# EAGLE library part M50-3142045 (library esp32_shield)
Headers & Wire Housings 20 WAY SIL VERT SMT SKT Source: Datasheet <https://componentsearchengine.com/Datasheets/1/M50-3142045.pdf>
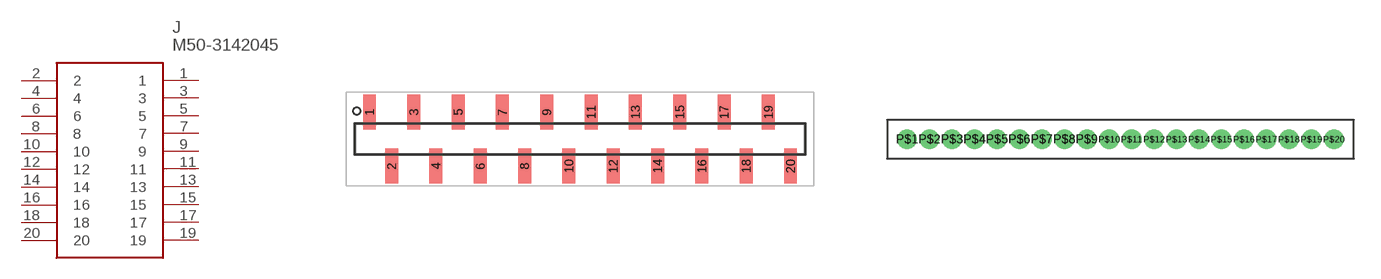
[diagram p0: symbol with the pads of M503142045; footprints M503142045, 20X1_HEADER_1MM27]

Designator prefix J

## M50-3142045 (DESCRIPTION: Headers & Wire Housings 20 WAY SIL VERT SMT SKT; HEIGHT: 3.6mm; MANUFACTURER_NAME: Harwin; MANUFACTURER_PART_NUMBER: M50-3142045; MOUSER_PART_NUMBER: 855-M50-3142045; MOUSER_PRICE-STOCK: https://www.mouser.co.uk/ProductDetail/Harwin/M50-3142045/?qs=%252BdQmOuGyFcFpETieNSWjAg%3D%3D)  [M503142045]
1  1
2  2
3  3
4  4
5  5
6  6
7  7
8  8
9  9
10  10
11  11
12  12
13  13
14  14
15  15
16  16
17  17
18  18
19  19
20  20

## M50-3142045THT  [20X1_HEADER_1MM27]
P$1  1
P$2  2
P$3  3
P$4  4
P$5  5
P$6  6
P$7  7
P$8  8
P$9  9
P$10  10
P$11  11
P$12  12
P$13  13
P$14  14
P$15  15
P$16  16
P$17  17
P$18  18
P$19  19
P$20  20

## Footprint M503142045 (pad centres in mm)
M50-3142045-1
smd 0.74 x 2: 1 -12.065,1.55; 2 -10.795,-1.55; 3 -9.525,1.55; 4 -8.255,-1.55; 5 -6.985,1.55; 6 -5.715,-1.55; 7 -4.445,1.55; 8 -3.175,-1.55; 9 -1.905,1.55; 10 -0.635,-1.55; 11 0.635,1.55; 12 1.905,-1.55; 13 3.175,1.55; 14 4.445,-1.55; 15 5.715,1.55; 16 6.985,-1.55; 17 8.255,1.55; 18 9.525,-1.55; 19 10.795,1.55; 20 12.065,-1.55

## Footprint 20X1_HEADER_1MM27 (pad centres in mm)
drill 0.6 pad 1.016: P$1 -12.065,0; P$2 -10.795,0; P$3 -9.525,0; P$4 -8.255,0; P$5 -6.985,0; P$6 -5.715,0; P$7 -4.445,0; P$8 -3.175,0; P$9 -1.905,0; P$10 -0.635,0; P$11 0.635,0; P$12 1.905,0; P$13 3.175,0; P$14 4.445,0; P$15 5.715,0; P$16 6.985,0; P$17 8.255,0; P$18 9.525,0; P$19 10.795,0; P$20 12.065,0